# Altium integrated library ECS-TXO-2520-33-400-AN-TR.IntLib: 1 symbol
Pins are listed as number, name and electrical type; pins without a type are passive.

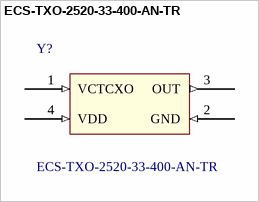
[diagram p0: symbol ECS-TXO-2520-33-400-AN-TR]

## ECS-TXO-2520-33-400-AN-TR
designator Y?
Osc Tcxo 40.0mhz 3.3v Hcmos Smd; MF: ECS Inc.; Package: SMD-4 ECS International; Price: None; SnapEDA_Link: https://www.snapeda.com/parts/ECS-TXO-2520-33-400-AN-TR/ECS%20Inc./view-part/?ref=snap; Availability: Unavailable; MP: ECS-TXO-2520-33-400-AN-TR; Value: *
footprint TCXO_Oscillator_2.5mmx2mm
pins: 1 VCTCXO (in), 2 GND (in), 3 OUT (out), 4 VDD (in)